# Altium schematic symbol library SparkFun-Retired.SCHLIB: 74 symbols
Pins are listed as number, name and electrical type; pins without a type are passive.

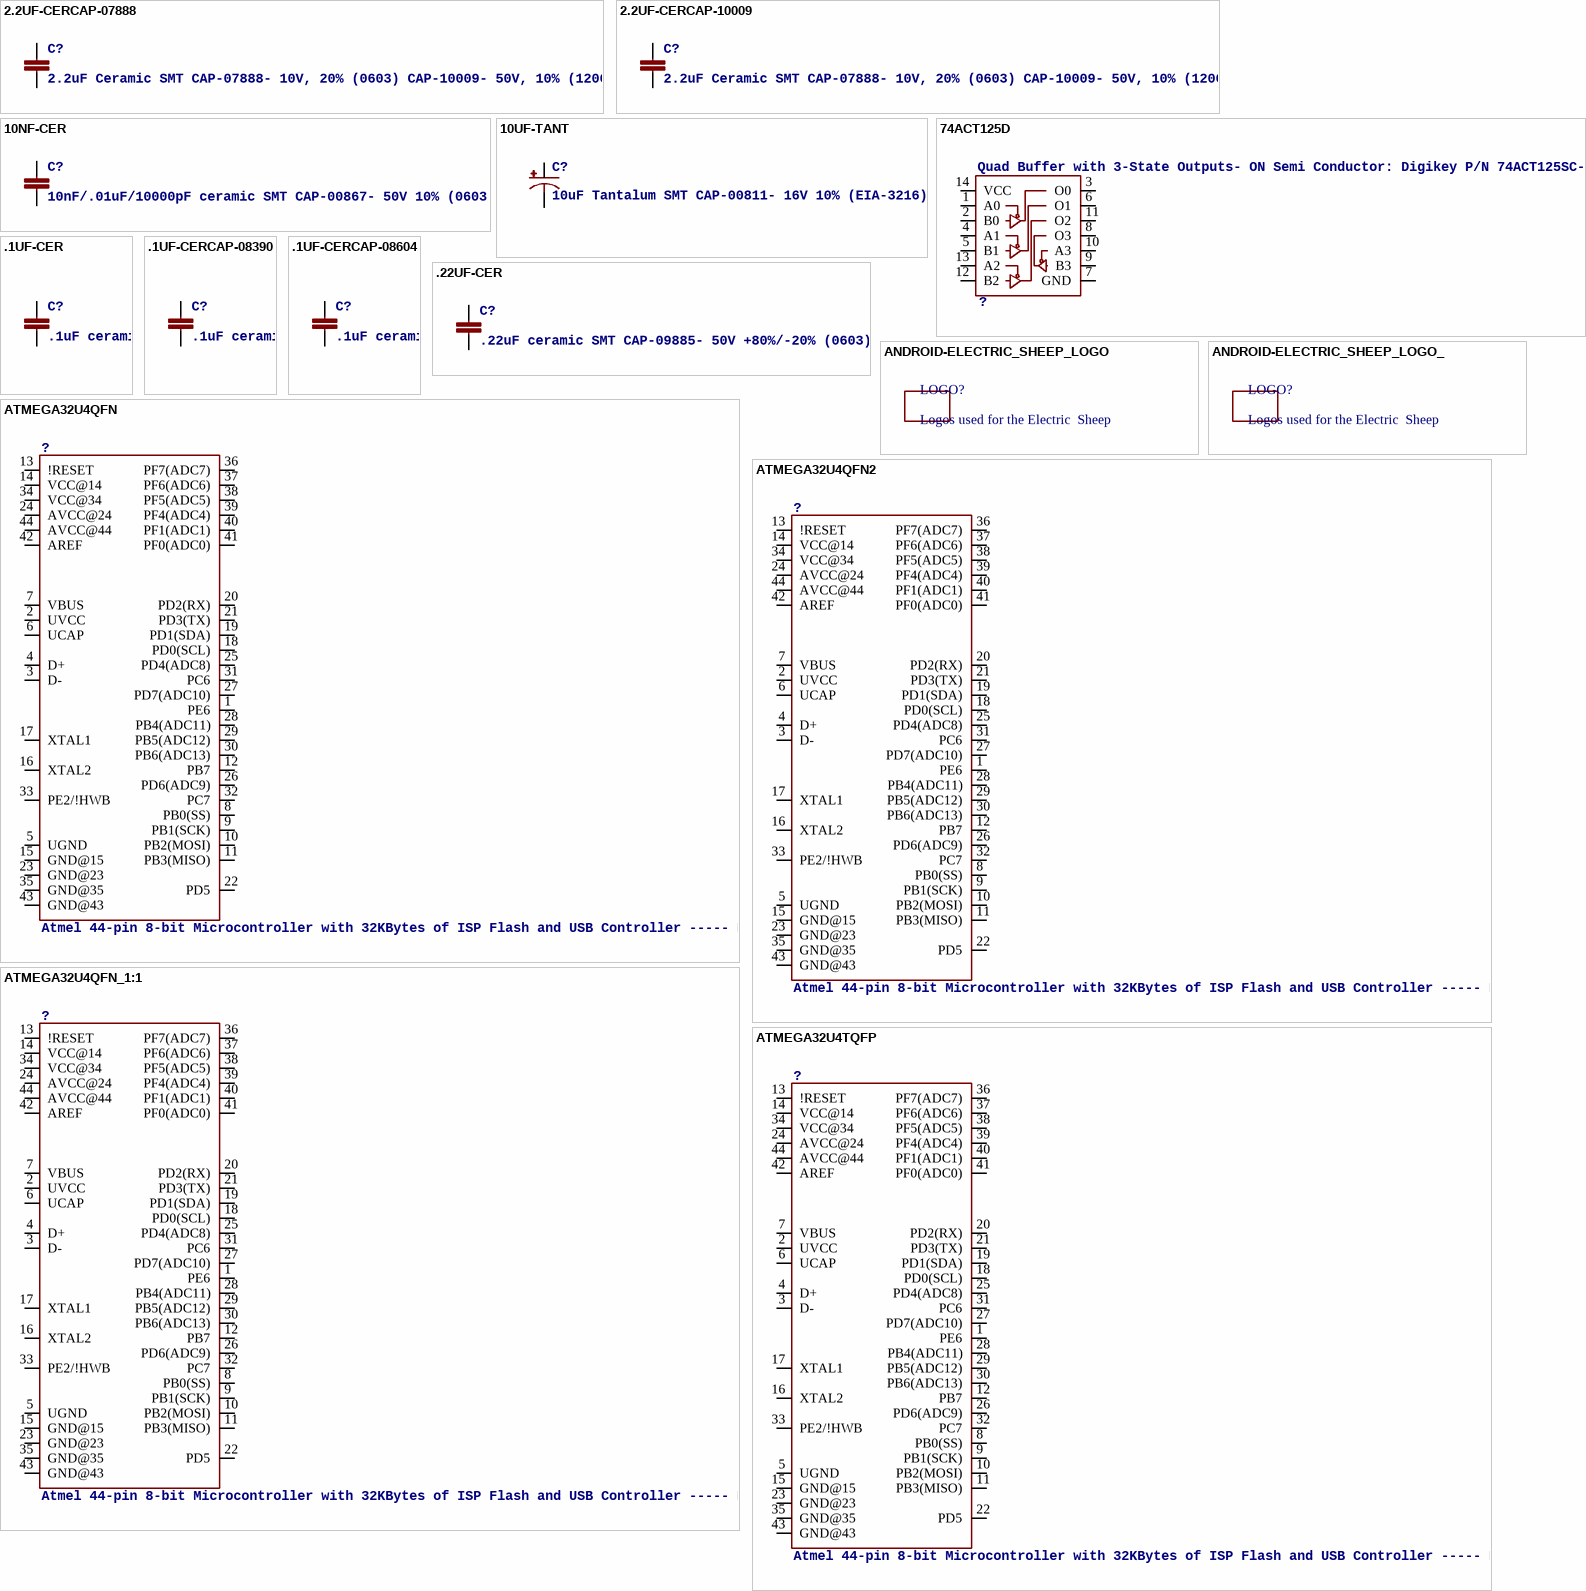
[diagram p0: symbols 2.2UF-CERCAP-07888 to ATMEGA32U4TQFP]

## 2.2UF-CERCAP-07888
designator C?, comment 2.2uF Ceramic SMT CAP-07888- 10V, 20% (0603) CAP-10009- 50V, 10% (1206)
PROD_ID: CAP-07888
footprint 0402-CAP
pins: 1, 2

## 2.2UF-CERCAP-10009
designator C?, comment 2.2uF Ceramic SMT CAP-07888- 10V, 20% (0603) CAP-10009- 50V, 10% (1206)
PROD_ID: CAP-10009
footprint 1206
pins: 1, 2

## 10NF-CER
designator C?, comment 10nF/.01uF/10000pF ceramic SMT CAP-00867- 50V 10% (0603)
PROD_ID: CAP-00867
footprint 0402-CAP
pins: 1, 2

## 10UF-TANT
designator C?, comment 10uF Tantalum SMT CAP-00811- 16V 10% (EIA-3216)
PROD_ID: CAP-00811
footprint EIA3216
pins: A +, C -

## 74ACT125D
designator ?, comment Quad Buffer with 3-State Outputs- ON Semi Conductor: Digikey P/N 74ACT125SC-ND
footprint SO014
pins: 1 A0, 2 B0, 3 O0, 4 A1, 5 B1, 6 O1, 7 GND, 8 O3, 9 B3, 10 A3, 11 O2, 12 B2, 13 A2, 14 VCC

## .1UF-CER
designator C?, comment .1uF ceramic SMT CAP-00810- 25V +80%/-20% (0603) CAP-08390- 100V 10% (0603) CAP-08604- 25V 5% (0603)
PROD_ID: CAP-00810
footprint 0402-CAP
pins: 1, 2

## .1UF-CERCAP-08390
designator C?, comment .1uF ceramic SMT CAP-00810- 25V +80%/-20% (0603) CAP-08390- 100V 10% (0603) CAP-08604- 25V 5% (0603)
PROD_ID: CAP-08390
footprint 0402-CAP
pins: 1, 2

## .1UF-CERCAP-08604
designator C?, comment .1uF ceramic SMT CAP-00810- 25V +80%/-20% (0603) CAP-08390- 100V 10% (0603) CAP-08604- 25V 5% (0603)
PROD_ID: CAP-08604
footprint 0402-CAP
pins: 1, 2

## .22UF-CER
designator C?, comment .22uF ceramic SMT CAP-09885- 50V +80%/-20% (0603)
PROD_ID: CAP-09885
footprint 0402-CAP
pins: 1, 2

## ANDROID-ELECTRIC_SHEEP_LOGO
designator LOGO?, comment Logos used for the Electric  Sheep
SF_ID: DEV-10745
footprint ANDROID-ELECTRIC_SHEEP_LOGO_SMALL

## ANDROID-ELECTRIC_SHEEP_LOGO_
designator LOGO?, comment Logos used for the Electric  Sheep
footprint ANDROID-ELECTRIC_SHEEP_LOGO

## ATMEGA32U4QFN
designator ?, comment Atmel 44-pin 8-bit Microcontroller with 32KBytes of ISP Flash and USB Controller ----- Please use the QFN-44-NOPAD_1:1 package for the footprint of all boards using a 32U4. Route traces directly away from the pads as much as possible.
footprint SPARKFUN-DIGITALIC_QFN-44
pins: 1 PE6, 2 UVCC, 3 D-, 4 D+, 5 UGND, 6 UCAP, 7 VBUS, 8 PB0(SS), 9 PB1(SCK), 10 PB2(MOSI), 11 PB3(MISO), 12 PB7, 13 !RESET, 14 VCC@14, 15 GND@15, 16 XTAL2, 17 XTAL1, 18 PD0(SCL), 19 PD1(SDA), 20 PD2(RX), 21 PD3(TX), 22 PD5, 23 GND@23, 24 AVCC@24, 25 PD4(ADC8), 26 PD6(ADC9), 27 PD7(ADC10), 28 PB4(ADC11), 29 PB5(ADC12), 30 PB6(ADC13), 31 PC6, 32 PC7, 33 PE2/!HWB, 34 VCC@34, 35 GND@35, 36 PF7(ADC7), 37 PF6(ADC6), 38 PF5(ADC5), 39 PF4(ADC4), 40 PF1(ADC1), 41 PF0(ADC0), 42 AREF, 43 GND@43, 44 AVCC@44

## ATMEGA32U4QFN2
designator ?, comment Atmel 44-pin 8-bit Microcontroller with 32KBytes of ISP Flash and USB Controller ----- Please use the QFN-44-NOPAD_1:1 package for the footprint of all boards using a 32U4. Route traces directly away from the pads as much as possible.
footprint SPARKFUN-DIGITALIC_QFN-44-NOPAD
pins: 1 PE6, 2 UVCC, 3 D-, 4 D+, 5 UGND, 6 UCAP, 7 VBUS, 8 PB0(SS), 9 PB1(SCK), 10 PB2(MOSI), 11 PB3(MISO), 12 PB7, 13 !RESET, 14 VCC@14, 15 GND@15, 16 XTAL2, 17 XTAL1, 18 PD0(SCL), 19 PD1(SDA), 20 PD2(RX), 21 PD3(TX), 22 PD5, 23 GND@23, 24 AVCC@24, 25 PD4(ADC8), 26 PD6(ADC9), 27 PD7(ADC10), 28 PB4(ADC11), 29 PB5(ADC12), 30 PB6(ADC13), 31 PC6, 32 PC7, 33 PE2/!HWB, 34 VCC@34, 35 GND@35, 36 PF7(ADC7), 37 PF6(ADC6), 38 PF5(ADC5), 39 PF4(ADC4), 40 PF1(ADC1), 41 PF0(ADC0), 42 AREF, 43 GND@43, 44 AVCC@44

## ATMEGA32U4QFN_1:1
designator ?, comment Atmel 44-pin 8-bit Microcontroller with 32KBytes of ISP Flash and USB Controller ----- Please use the QFN-44-NOPAD_1:1 package for the footprint of all boards using a 32U4. Route traces directly away from the pads as much as possible.
footprint QFN-44-NOPAD_1:1
pins: 1 PE6, 2 UVCC, 3 D-, 4 D+, 5 UGND, 6 UCAP, 7 VBUS, 8 PB0(SS), 9 PB1(SCK), 10 PB2(MOSI), 11 PB3(MISO), 12 PB7, 13 !RESET, 14 VCC@14, 15 GND@15, 16 XTAL2, 17 XTAL1, 18 PD0(SCL), 19 PD1(SDA), 20 PD2(RX), 21 PD3(TX), 22 PD5, 23 GND@23, 24 AVCC@24, 25 PD4(ADC8), 26 PD6(ADC9), 27 PD7(ADC10), 28 PB4(ADC11), 29 PB5(ADC12), 30 PB6(ADC13), 31 PC6, 32 PC7, 33 PE2/!HWB, 34 VCC@34, 35 GND@35, 36 PF7(ADC7), 37 PF6(ADC6), 38 PF5(ADC5), 39 PF4(ADC4), 40 PF1(ADC1), 41 PF0(ADC0), 42 AREF, 43 GND@43, 44 AVCC@44

## ATMEGA32U4TQFP
designator ?, comment Atmel 44-pin 8-bit Microcontroller with 32KBytes of ISP Flash and USB Controller ----- Please use the QFN-44-NOPAD_1:1 package for the footprint of all boards using a 32U4. Route traces directly away from the pads as much as possible.
PROD_ID: IC-11161
footprint SPARKFUN-DIGITALIC_TQFP44
pins: 1 PE6, 2 UVCC, 3 D-, 4 D+, 5 UGND, 6 UCAP, 7 VBUS, 8 PB0(SS), 9 PB1(SCK), 10 PB2(MOSI), 11 PB3(MISO), 12 PB7, 13 !RESET, 14 VCC@14, 15 GND@15, 16 XTAL2, 17 XTAL1, 18 PD0(SCL), 19 PD1(SDA), 20 PD2(RX), 21 PD3(TX), 22 PD5, 23 GND@23, 24 AVCC@24, 25 PD4(ADC8), 26 PD6(ADC9), 27 PD7(ADC10), 28 PB4(ADC11), 29 PB5(ADC12), 30 PB6(ADC13), 31 PC6, 32 PC7, 33 PE2/!HWB, 34 VCC@34, 35 GND@35, 36 PF7(ADC7), 37 PF6(ADC6), 38 PF5(ADC5), 39 PF4(ADC4), 40 PF1(ADC1), 41 PF0(ADC0), 42 AREF, 43 GND@43, 44 AVCC@44

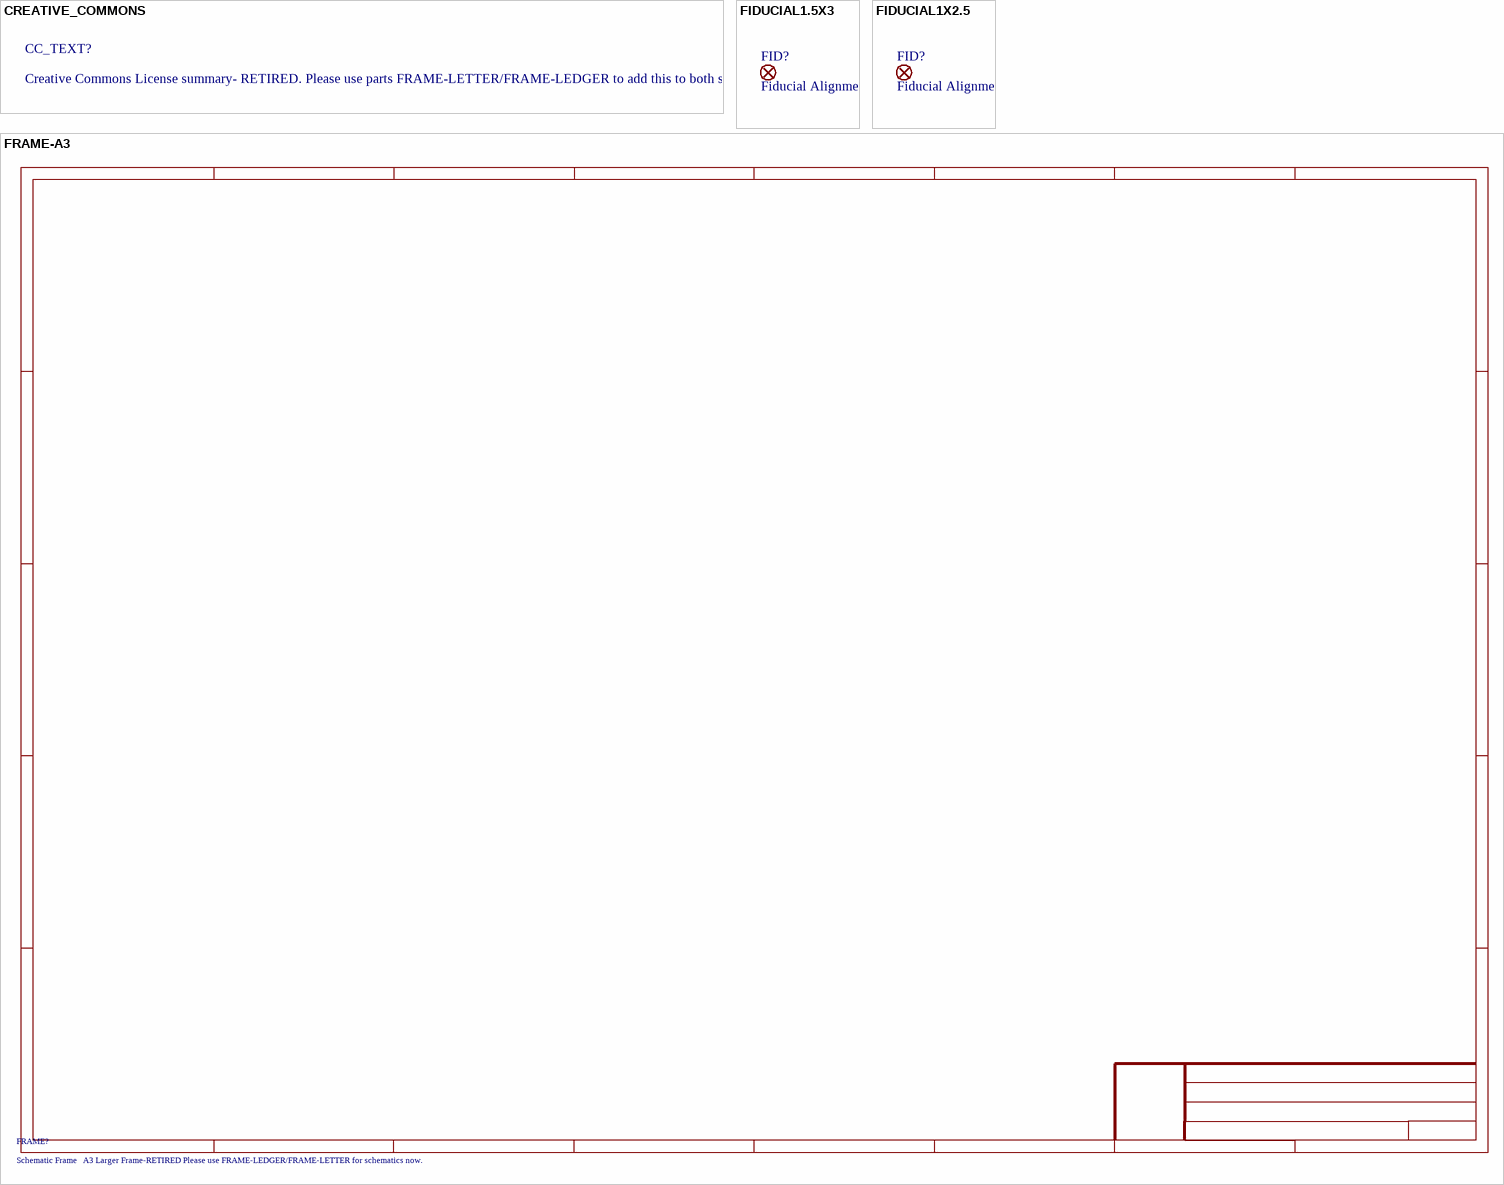
[diagram p1: symbols CREATIVE_COMMONS to FRAME-A3]

## CREATIVE_COMMONS
designator CC_TEXT?, comment Creative Commons License summary- RETIRED. Please use parts FRAME-LETTER/FRAME-LEDGER to add this to both schematic and board file.
footprint CREATIVE_COMMONS

## FIDUCIAL1.5X3
designator FID?, comment Fiducial Alignment PointsVarious fiducial points for machine vision alignment.
footprint FIDUCIAL-1.5X3

## FIDUCIAL1X2.5
designator FID?, comment Fiducial Alignment PointsVarious fiducial points for machine vision alignment.
footprint FIDUCIAL-1X2.5

## FRAME-A3
designator FRAME?, comment Schematic Frame   A3 Larger Frame-RETIRED Please use FRAME-LEDGER/FRAME-LETTER for schematics now.

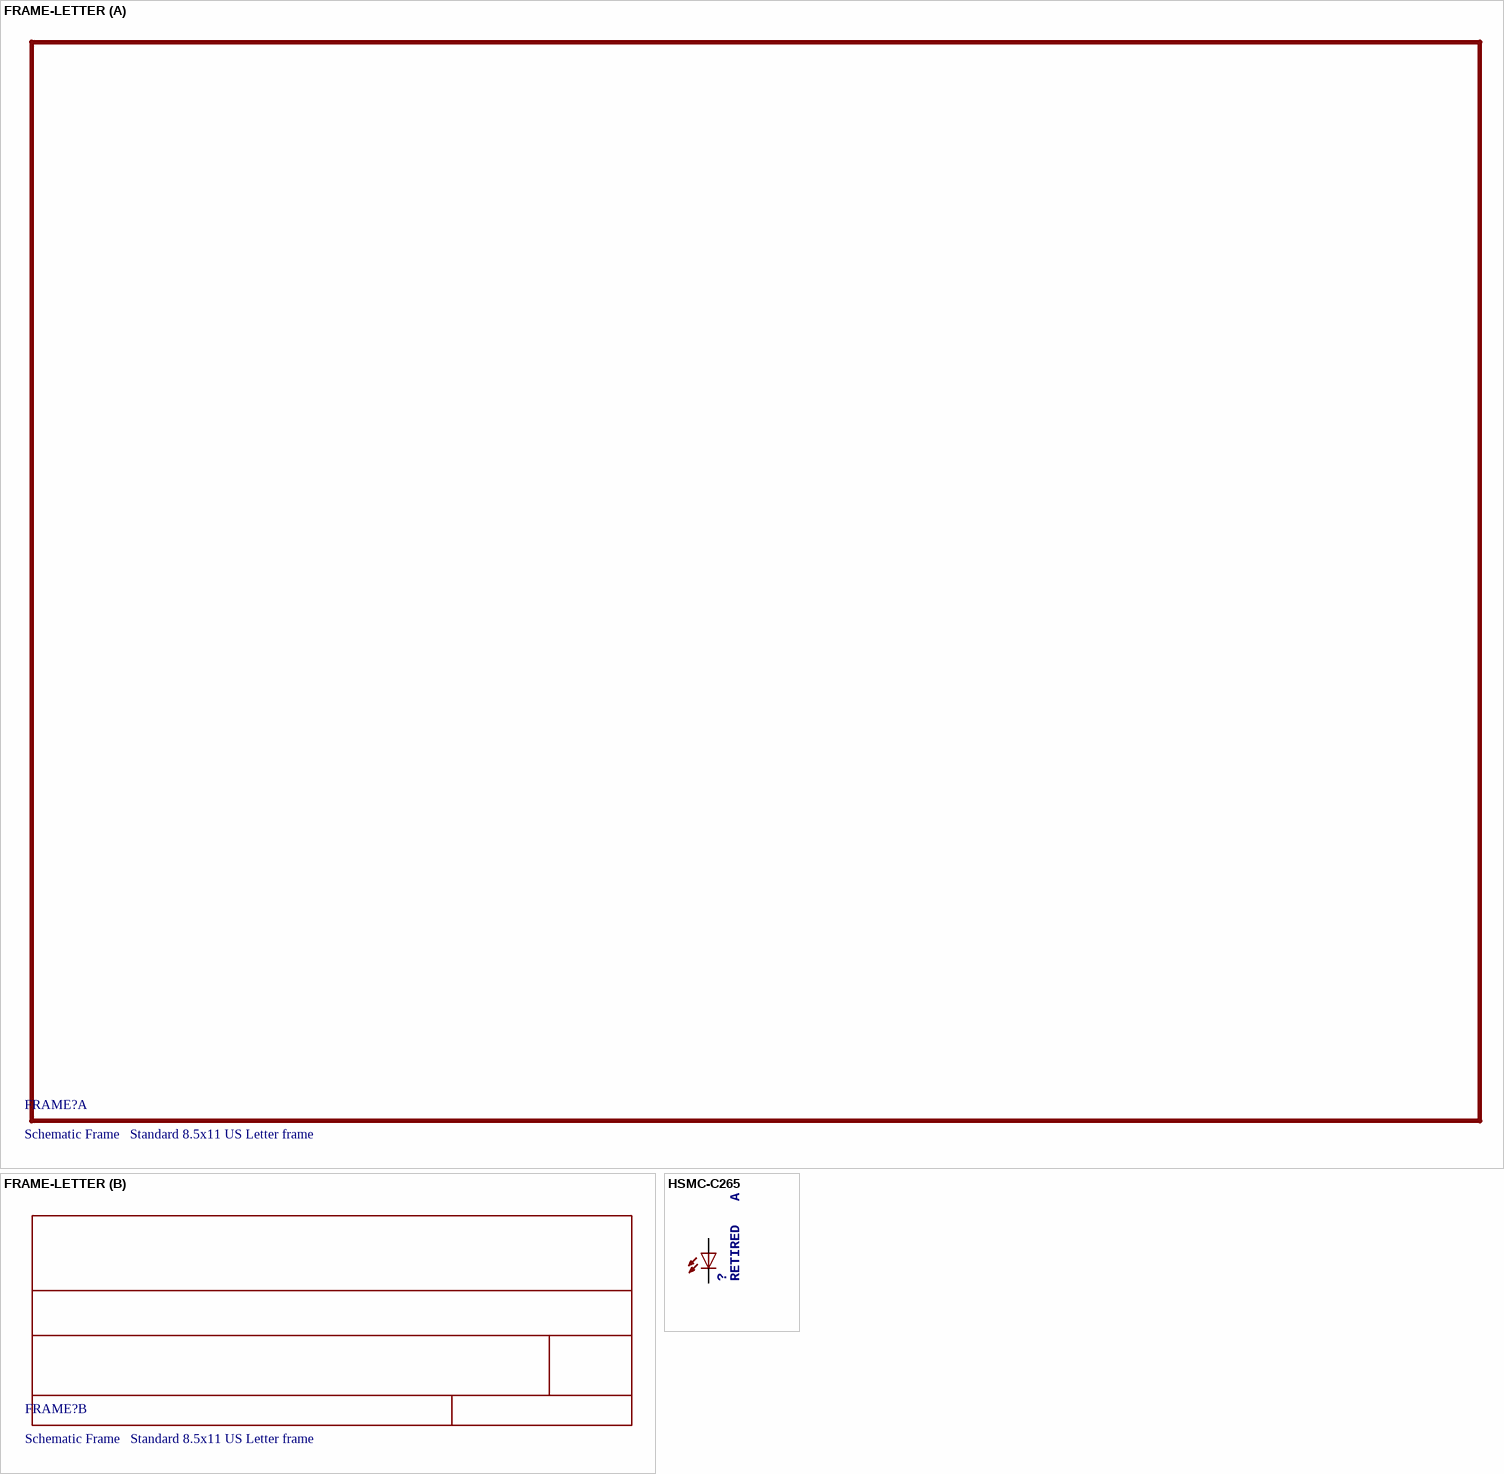
[diagram p2: symbols FRAME-LETTER to HSMC-C265]

## FRAME-LETTER
designator FRAME?, comment Schematic Frame   Standard 8.5x11 US Letter frame
footprint CREATIVE_COMMONS

## HSMC-C265
designator ?, comment RETIRED   Avago HSMC-C265 reverse-mounted red LED This is a SMD LED that is mounted to one side of a PCB and shines through a hole to the other side of the PCB. Useful for making boards with no components on one side for mounting and having LED indicator lights shine through the board, panel, etc.
footprint HSMC-C265
pins: A, C

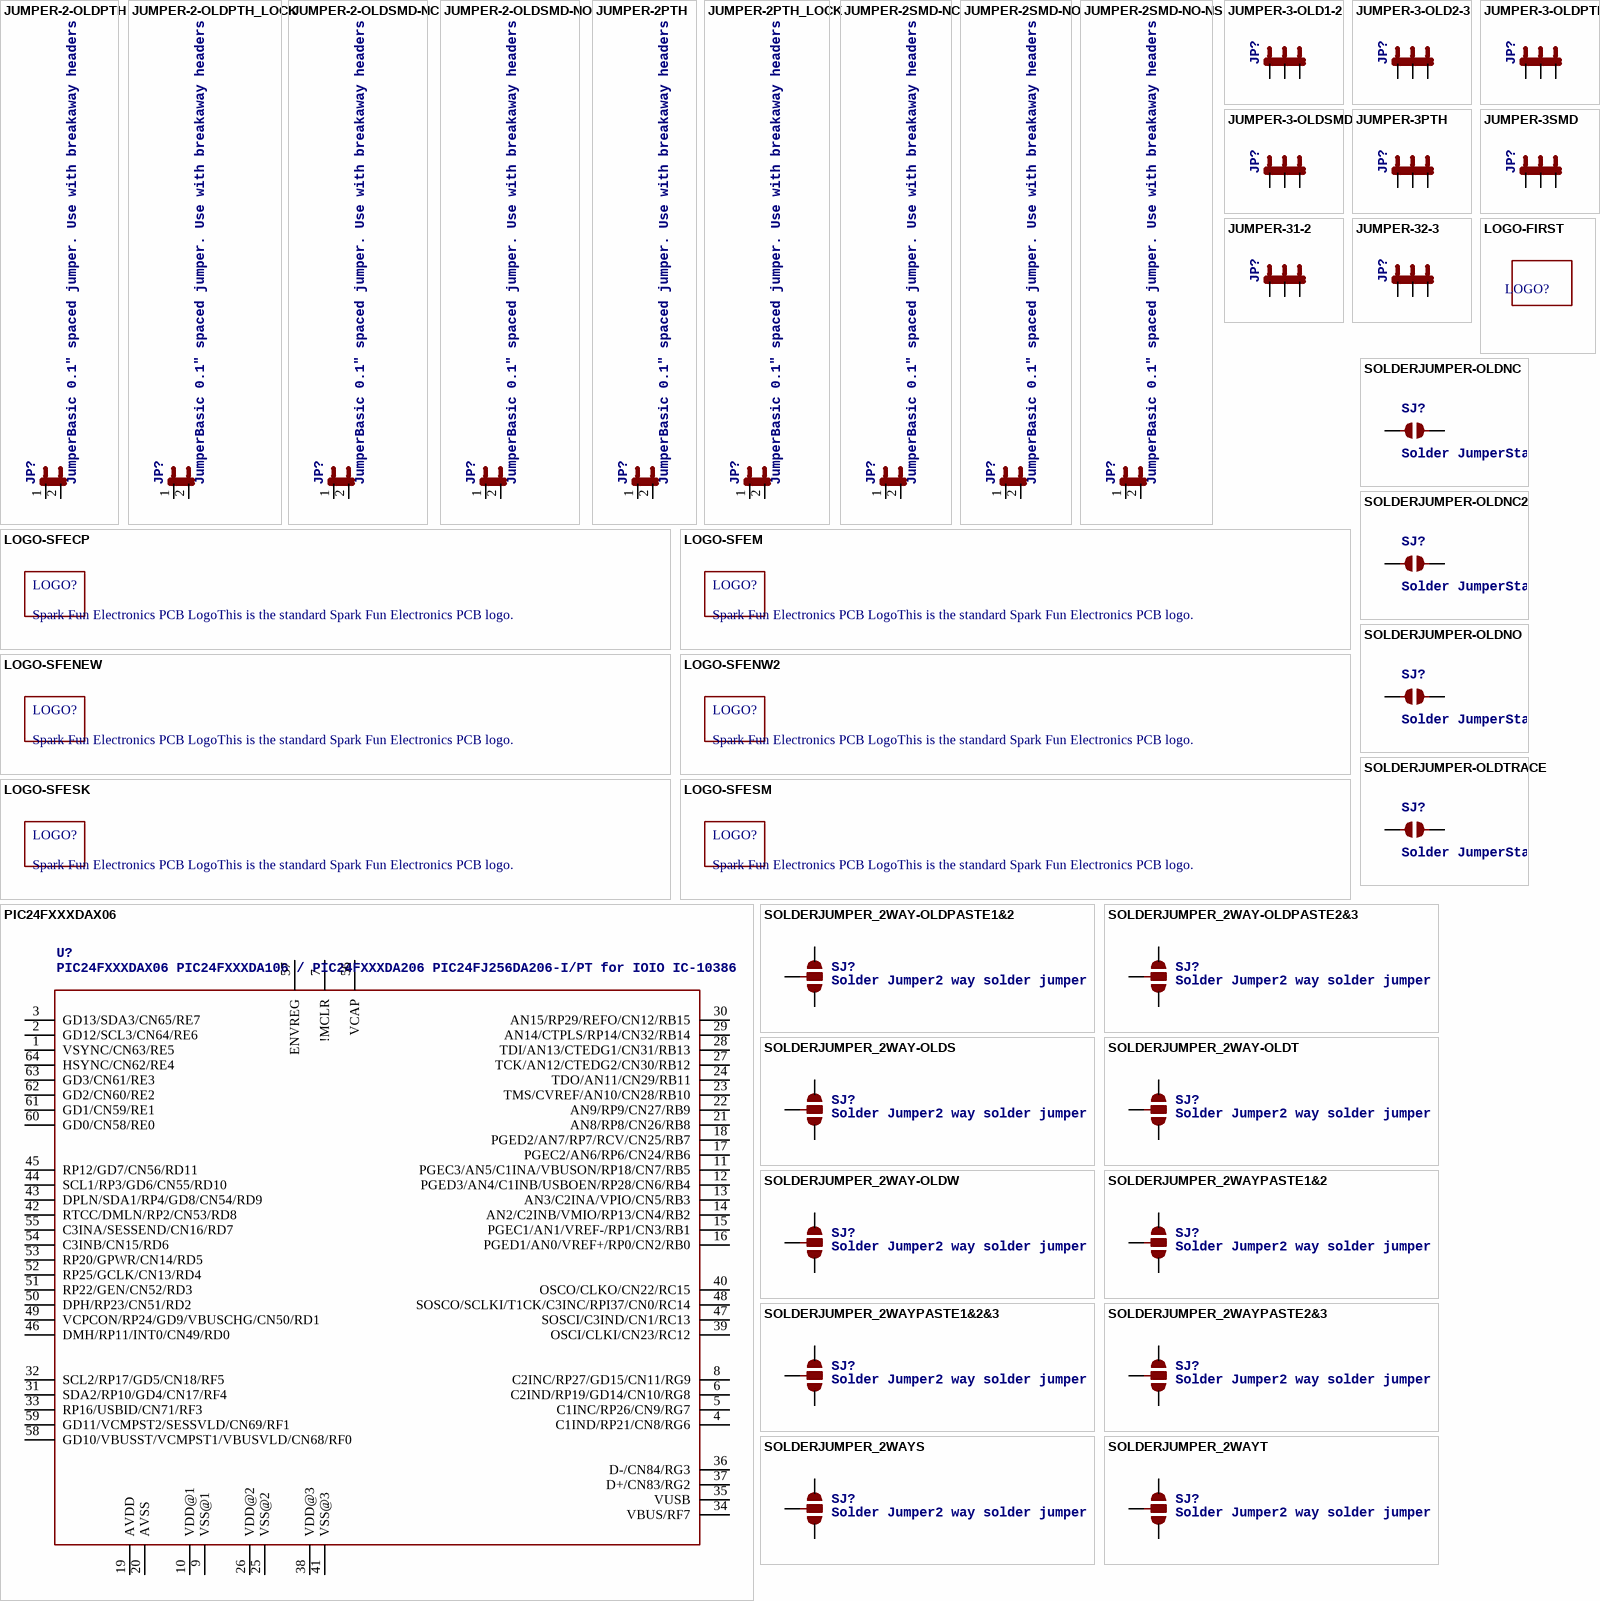
[diagram p3: symbols JUMPER-2-OLDPTH to SOLDERJUMPER_2WAYT]

## JUMPER-2-OLDPTH
designator JP?, comment JumperBasic 0.1" spaced jumper. Use with breakaway headers.
footprint 1X02
pins: 1, 2

## JUMPER-2-OLDPTH_LOCK
designator JP?, comment JumperBasic 0.1" spaced jumper. Use with breakaway headers.
footprint 1X02_LOCK
pins: 1, 2

## JUMPER-2-OLDSMD-NC
designator JP?, comment JumperBasic 0.1" spaced jumper. Use with breakaway headers.
footprint SJ_2S
pins: 1, 2

## JUMPER-2-OLDSMD-NO
designator JP?, comment JumperBasic 0.1" spaced jumper. Use with breakaway headers.
footprint SJ_2S-NO
pins: 1, 2

## JUMPER-2PTH
designator JP?, comment JumperBasic 0.1" spaced jumper. Use with breakaway headers.
footprint 1X02
pins: 1, 2

## JUMPER-2PTH_LOCK
designator JP?, comment JumperBasic 0.1" spaced jumper. Use with breakaway headers.
footprint 1X02_LOCK
pins: 1, 2

## JUMPER-2SMD-NC
designator JP?, comment JumperBasic 0.1" spaced jumper. Use with breakaway headers.
footprint SJ_2S
pins: 1, 2

## JUMPER-2SMD-NO
designator JP?, comment JumperBasic 0.1" spaced jumper. Use with breakaway headers.
footprint SJ_2S-NO
pins: 1, 2

## JUMPER-2SMD-NO-NS
designator JP?, comment JumperBasic 0.1" spaced jumper. Use with breakaway headers.
footprint SJ_2S-NO-NS
pins: 1, 2

## JUMPER-3-OLD1-2
designator JP?
footprint SJ_3_PASTE1&2
pins: 1, 2, 3

## JUMPER-3-OLD2-3
designator JP?
footprint SJ_3_PASTE2&3
pins: 1, 2, 3

## JUMPER-3-OLDPTH
designator JP?
footprint 1X03
pins: 1, 2, 3

## JUMPER-3-OLDSMD
designator JP?
footprint SJ_3
pins: 1, 2, 3

## JUMPER-3PTH
designator JP?
footprint 1X03
pins: 1, 2, 3

## JUMPER-3SMD
designator JP?
footprint SJ_3
pins: 1, 2, 3

## JUMPER-31-2
designator JP?
footprint SJ_3_PASTE1&2
pins: 1, 2, 3

## JUMPER-32-3
designator JP?
footprint SJ_3_PASTE2&3
pins: 1, 2, 3

## LOGO-FIRST
designator LOGO?
footprint FRIST_LOGO

## LOGO-SFECP
designator LOGO?, comment Spark Fun Electronics PCB LogoThis is the standard Spark Fun Electronics PCB logo.
footprint SFE-LOGO-FLAME-COPPER

## LOGO-SFEM
designator LOGO?, comment Spark Fun Electronics PCB LogoThis is the standard Spark Fun Electronics PCB logo.
footprint SFE-LOGO

## LOGO-SFENEW
designator LOGO?, comment Spark Fun Electronics PCB LogoThis is the standard Spark Fun Electronics PCB logo.
footprint SFE-NEW-WEBLOGO

## LOGO-SFENW2
designator LOGO?, comment Spark Fun Electronics PCB LogoThis is the standard Spark Fun Electronics PCB logo.
footprint SFE-NEW-WEB

## LOGO-SFESK
designator LOGO?, comment Spark Fun Electronics PCB LogoThis is the standard Spark Fun Electronics PCB logo.
footprint SFE-LOGO-FLAME

## LOGO-SFESM
designator LOGO?, comment Spark Fun Electronics PCB LogoThis is the standard Spark Fun Electronics PCB logo.
footprint SFE-NEW-WEB-SOLDERMASK

## PIC24FXXXDAX06
designator U?, comment PIC24FXXXDAX06 PIC24FXXXDA106 / PIC24FXXXDA206 PIC24FJ256DA206-I/PT for IOIO IC-10386
PROD_ID: IC-10386
footprint PIC24FXXX_TQFP64
pins: 1 VSYNC/CN63/RE5, 2 GD12/SCL3/CN64/RE6, 3 GD13/SDA3/CN65/RE7, 4 C1IND/RP21/CN8/RG6, 5 C1INC/RP26/CN9/RG7, 6 C2IND/RP19/GD14/CN10/RG8, 7 !MCLR, 8 C2INC/RP27/GD15/CN11/RG9, 9 VSS@1 (power), 10 VDD@1 (power), 11 PGEC3/AN5/C1INA/VBUSON/RP18/CN7/RB5, 12 PGED3/AN4/C1INB/USBOEN/RP28/CN6/RB4, 13 AN3/C2INA/VPIO/CN5/RB3, 14 AN2/C2INB/VMIO/RP13/CN4/RB2, 15 PGEC1/AN1/VREF-/RP1/CN3/RB1, 16 PGED1/AN0/VREF+/RP0/CN2/RB0, 17 PGEC2/AN6/RP6/CN24/RB6, 18 PGED2/AN7/RP7/RCV/CN25/RB7, 19 AVDD (power), 20 AVSS (power), 21 AN8/RP8/CN26/RB8, 22 AN9/RP9/CN27/RB9, 23 TMS/CVREF/AN10/CN28/RB10, 24 TDO/AN11/CN29/RB11, 25 VSS@2 (power), 26 VDD@2 (power), 27 TCK/AN12/CTEDG2/CN30/RB12, 28 TDI/AN13/CTEDG1/CN31/RB13, 29 AN14/CTPLS/RP14/CN32/RB14, 30 AN15/RP29/REFO/CN12/RB15, 31 SDA2/RP10/GD4/CN17/RF4, 32 SCL2/RP17/GD5/CN18/RF5, 33 RP16/USBID/CN71/RF3, 34 VBUS/RF7, 35 VUSB (power), 36 D-/CN84/RG3, 37 D+/CN83/RG2, 38 VDD@3 (power), 39 OSCI/CLKI/CN23/RC12, 40 OSCO/CLKO/CN22/RC15, 41 VSS@3 (power), 42 RTCC/DMLN/RP2/CN53/RD8, 43 DPLN/SDA1/RP4/GD8/CN54/RD9, 44 SCL1/RP3/GD6/CN55/RD10, 45 RP12/GD7/CN56/RD11, 46 DMH/RP11/INT0/CN49/RD0, 47 SOSCI/C3IND/CN1/RC13, 48 SOSCO/SCLKI/T1CK/C3INC/RPI37/CN0/RC14, 49 VCPCON/RP24/GD9/VBUSCHG/CN50/RD1, 50 DPH/RP23/CN51/RD2, 51 RP22/GEN/CN52/RD3, 52 RP25/GCLK/CN13/RD4, 53 RP20/GPWR/CN14/RD5, 54 C3INB/CN15/RD6, 55 C3INA/SESSEND/CN16/RD7, 56 VCAP (power), 57 ENVREG, 58 GD10/VBUSST/VCMPST1/VBUSVLD/CN68/RF0, 59 GD11/VCMPST2/SESSVLD/CN69/RF1, 60 GD0/CN58/RE0, 61 GD1/CN59/RE1, 62 GD2/CN60/RE2, 63 GD3/CN61/RE3, 64 HSYNC/CN62/RE4

## SOLDERJUMPER-OLDNC
designator SJ?, comment Solder JumperStandard SMD solder jumper. Used to automate production. Two varients : Normally Open and Normally Closed are the same, but have different paste layers. NC will have a large amount of paste and should jumper during reflow.
footprint SJ_2S
pins: 1, 2

## SOLDERJUMPER-OLDNC2
designator SJ?, comment Solder JumperStandard SMD solder jumper. Used to automate production. Two varients : Normally Open and Normally Closed are the same, but have different paste layers. NC will have a large amount of paste and should jumper during reflow.
footprint SJ_2S-NOTRACE
pins: 1, 2

## SOLDERJUMPER-OLDNO
designator SJ?, comment Solder JumperStandard SMD solder jumper. Used to automate production. Two varients : Normally Open and Normally Closed are the same, but have different paste layers. NC will have a large amount of paste and should jumper during reflow.
footprint SJ_2S-NO
pins: 1, 2

## SOLDERJUMPER-OLDTRACE
designator SJ?, comment Solder JumperStandard SMD solder jumper. Used to automate production. Two varients : Normally Open and Normally Closed are the same, but have different paste layers. NC will have a large amount of paste and should jumper during reflow.
footprint SJ_2S-TRACE
pins: 1, 2

## SOLDERJUMPER_2WAY-OLDPASTE1&2
designator SJ?, comment Solder Jumper2 way solder jumper
footprint SJ_3_PASTE1&2
pins: 1, 2, 3

## SOLDERJUMPER_2WAY-OLDPASTE2&3
designator SJ?, comment Solder Jumper2 way solder jumper
footprint SJ_3_PASTE2&3
pins: 1, 2, 3

## SOLDERJUMPER_2WAY-OLDS
designator SJ?, comment Solder Jumper2 way solder jumper
footprint SJ_3
pins: 1, 2, 3

## SOLDERJUMPER_2WAY-OLDT
designator SJ?, comment Solder Jumper2 way solder jumper
footprint SJ_2
pins: 1, 2, 3

## SOLDERJUMPER_2WAY-OLDW
designator SJ?, comment Solder Jumper2 way solder jumper
footprint SJ_2W
pins: 1, 2, 3

## SOLDERJUMPER_2WAYPASTE1&2
designator SJ?, comment Solder Jumper2 way solder jumper
footprint SJ_3_PASTE1&2
pins: 1, 2, 3

## SOLDERJUMPER_2WAYPASTE1&2&3
designator SJ?, comment Solder Jumper2 way solder jumper
footprint SJ_3_PASTE1&2&3
pins: 1, 2, 3

## SOLDERJUMPER_2WAYPASTE2&3
designator SJ?, comment Solder Jumper2 way solder jumper
footprint SJ_3_PASTE2&3
pins: 1, 2, 3

## SOLDERJUMPER_2WAYS
designator SJ?, comment Solder Jumper2 way solder jumper
footprint SJ_3
pins: 1, 2, 3

## SOLDERJUMPER_2WAYT
designator SJ?, comment Solder Jumper2 way solder jumper
footprint SJ_2
pins: 1, 2, 3

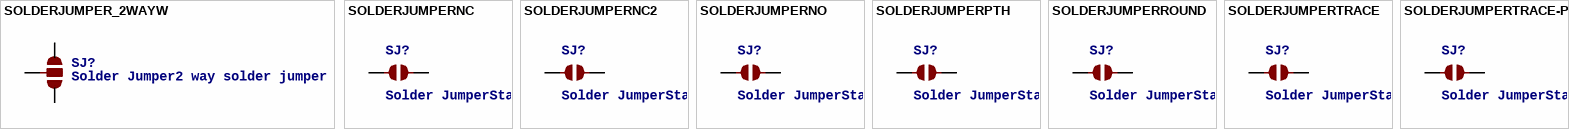
[diagram p4: symbols SOLDERJUMPER_2WAYW to SOLDERJUMPERTRACE-PTH]

## SOLDERJUMPER_2WAYW
designator SJ?, comment Solder Jumper2 way solder jumper
footprint SJ_2W
pins: 1, 2, 3

## SOLDERJUMPERNC
designator SJ?, comment Solder JumperStandard SMD solder jumper. Used to automate production. Two varients : Normally Open and Normally Closed are the same, but have different paste layers. NC will have a large amount of paste and should jumper during reflow.
footprint SJ_2S
pins: 1, 2

## SOLDERJUMPERNC2
designator SJ?, comment Solder JumperStandard SMD solder jumper. Used to automate production. Two varients : Normally Open and Normally Closed are the same, but have different paste layers. NC will have a large amount of paste and should jumper during reflow.
footprint SJ_2S-NOTRACE
pins: 1, 2

## SOLDERJUMPERNO
designator SJ?, comment Solder JumperStandard SMD solder jumper. Used to automate production. Two varients : Normally Open and Normally Closed are the same, but have different paste layers. NC will have a large amount of paste and should jumper during reflow.
footprint SJ_2S-NO
pins: 1, 2

## SOLDERJUMPERPTH
designator SJ?, comment Solder JumperStandard SMD solder jumper. Used to automate production. Two varients : Normally Open and Normally Closed are the same, but have different paste layers. NC will have a large amount of paste and should jumper during reflow.
footprint SJ_2S-PTH
pins: 1, 2

## SOLDERJUMPERROUND
designator SJ?, comment Solder JumperStandard SMD solder jumper. Used to automate production. Two varients : Normally Open and Normally Closed are the same, but have different paste layers. NC will have a large amount of paste and should jumper during reflow.
footprint SJ_ROUND
pins: 1, 2

## SOLDERJUMPERTRACE
designator SJ?, comment Solder JumperStandard SMD solder jumper. Used to automate production. Two varients : Normally Open and Normally Closed are the same, but have different paste layers. NC will have a large amount of paste and should jumper during reflow.
footprint SJ_2S-TRACE
pins: 1, 2

## SOLDERJUMPERTRACE-PTH
designator SJ?, comment Solder JumperStandard SMD solder jumper. Used to automate production. Two varients : Normally Open and Normally Closed are the same, but have different paste layers. NC will have a large amount of paste and should jumper during reflow.
footprint SJ_2S-TRACE-PTH
pins: 1, 2

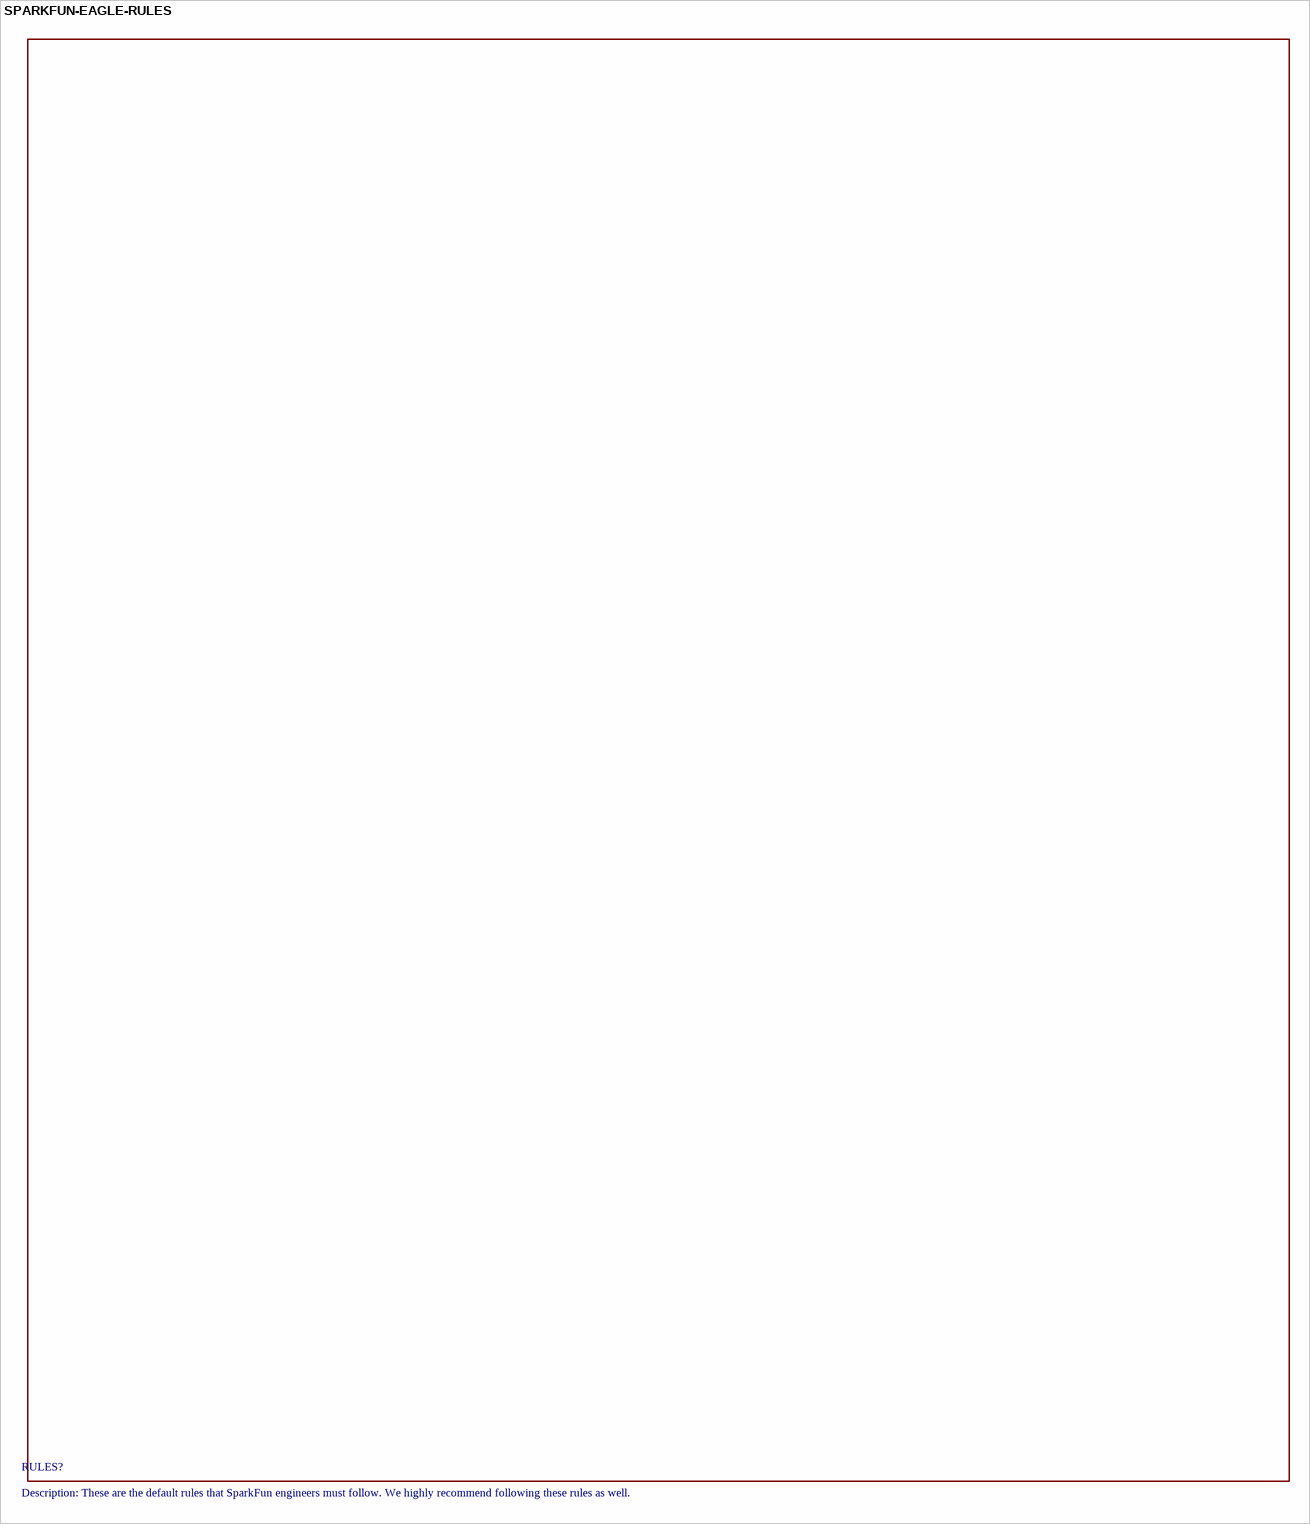
[diagram p5: symbol SPARKFUN-EAGLE-RULES]

## SPARKFUN-EAGLE-RULES
designator RULES?, comment Description: These are the default rules that SparkFun engineers must follow. We highly recommend following these rules as well.

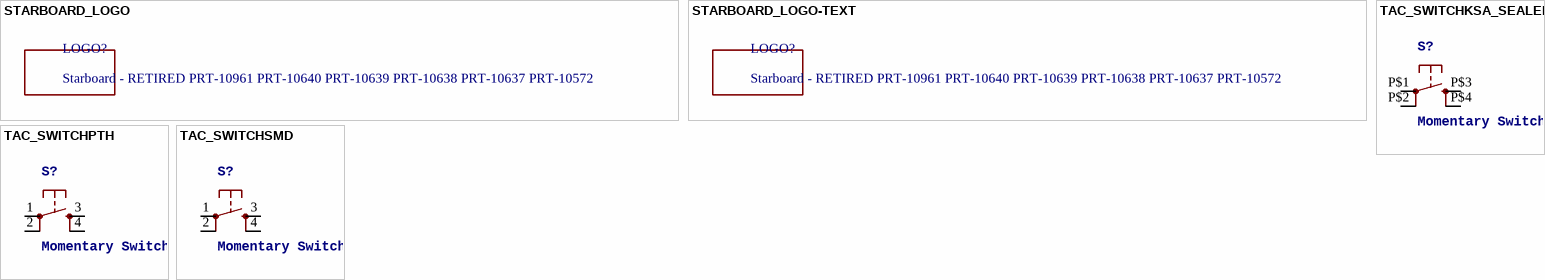
[diagram p6: symbols STARBOARD_LOGO to TAC_SWITCHSMD]

## STARBOARD_LOGO
designator LOGO?, comment Starboard - RETIRED PRT-10961 PRT-10640 PRT-10639 PRT-10638 PRT-10637 PRT-10572
footprint STARBOARD_LOGO

## STARBOARD_LOGO-TEXT
designator LOGO?, comment Starboard - RETIRED PRT-10961 PRT-10640 PRT-10639 PRT-10638 PRT-10637 PRT-10572
footprint STARBOARD_LOGO_TEXT

## TAC_SWITCHKSA_SEALED
designator S?, comment Momentary Switch Button commonly used for reset or general input. Spark Fun Electronics SKU : COM-00097 SMT- SWCH-08247
footprint KSA_SEALED_TAC_SWITCH
pins: P$1 1, P$2 2, P$3 3, P$4 4

## TAC_SWITCHPTH
designator S?, comment Momentary Switch Button commonly used for reset or general input. Spark Fun Electronics SKU : COM-00097 SMT- SWCH-08247
footprint TACTILE-PTH
pins: 1, 2, 3, 4

## TAC_SWITCHSMD
designator S?, comment Momentary Switch Button commonly used for reset or general input. Spark Fun Electronics SKU : COM-00097 SMT- SWCH-08247
PROD_ID: SWCH-08247
footprint TACTILE-SWITCH-SMD
pins: 1, 2, 3, 4